# EAGLE library part MAX3100 (library components)
MAX3100
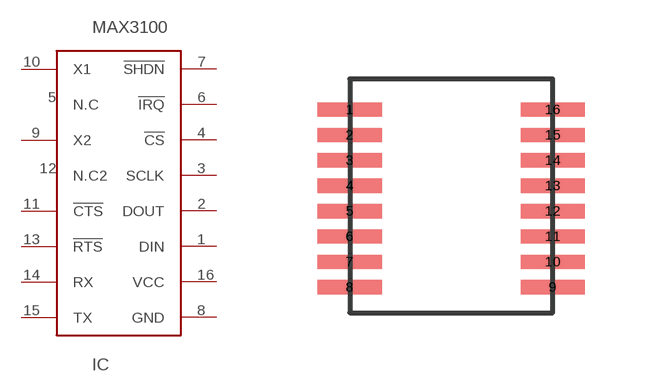
[diagram p5: symbol with the pads of 16QSOP; footprint 16QSOP]

Designator prefix IC

## MAX3100  [16QSOP]
1  DIN
2  DOUT
3  SCLK
4  !CS
5  N.C
6  !IRQ
7  !SHDN
8  GND
9  X2
10  X1
11  !CTS
12  N.C2
13  !RTS
14  RX
15  TX
16  VCC

## Footprint 16QSOP (pad centres in mm)
smd 1.6 x 0.356: 1 -2.54,0; 2 -2.54,-0.635; 3 -2.54,-1.27; 4 -2.54,-1.905; 5 -2.54,-2.54; 6 -2.54,-3.175; 7 -2.54,-3.81; 8 -2.54,-4.445; 9 2.54,-4.445; 10 2.54,-3.81; 11 2.54,-3.175; 12 2.54,-2.54; 13 2.54,-1.905; 14 2.54,-1.27; 15 2.54,-0.635; 16 2.54,0